# EAGLE library part FPC_12_0.5MM (library RTK Facet)
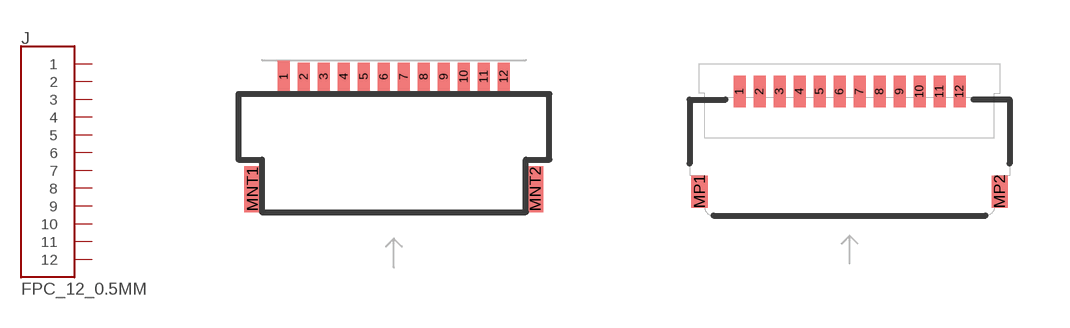
[diagram p1: symbol with the pads of FPC_12_FLIP_DOUBLESIDED; footprints FPC_12_FLIP_DOUBLESIDED, FPC_12_FLIP_DOUBLESIDED_2]

Designator prefix J

## FPC_12_0.5MM  [FPC_12_FLIP_DOUBLESIDED]
1  1
2  2
3  3
4  4
5  5
6  6
7  7
8  8
9  9
10  10
11  11
12  12

## FPC_12_0.5MM2  [FPC_12_FLIP_DOUBLESIDED_2]
Pads as for FPC_12_FLIP_DOUBLESIDED

## Footprint FPC_12_FLIP_DOUBLESIDED (pad centres in mm)
Designed to work with ATOM FPC050*-14* front flip series as well as Molex 5034800800 back flip series.
smd 0.3 x 0.8: 1 -2.75,1.675
smd 0.3 x 0.7: 2 -2.25,1.675; 3 -1.75,1.675; 4 -1.25,1.675; 5 -0.75,1.675; 6 -0.25,1.675; 7 0.25,1.675; 8 0.75,1.675; 9 1.25,1.675; 10 1.75,1.675; 11 2.25,1.675; 12 2.75,1.675
smd 0.4 x 1.15: MNT1 -3.535,-1.135; MNT2 3.535,-1.135

## Footprint FPC_12_FLIP_DOUBLESIDED_2 (pad centres in mm)
smd 0.3 x 0.8: 1 -2.75,1.35; 2 -2.25,1.35; 3 -1.75,1.35; 4 -1.25,1.35; 5 -0.75,1.35; 6 -0.25,1.35; 7 0.25,1.35; 8 0.75,1.35; 9 1.25,1.35; 10 1.75,1.35; 11 2.25,1.35; 12 2.75,1.35
smd 0.4 x 0.8: MP1 -3.75,-1.15; MP2 3.75,-1.15